# Altium footprint library Connector.PcbLib: 18 footprints (part 1 of 2)
Each footprint in its own frame and in the unit in brackets; x right, y up, seen from the top. Pads: shape width x height; smd on the part's side, far side on the other; paste and mask are expansions set on the pad; w line width, h text height; cw(c..) or ccw(c..) is an arc to the next point about the centre after c.
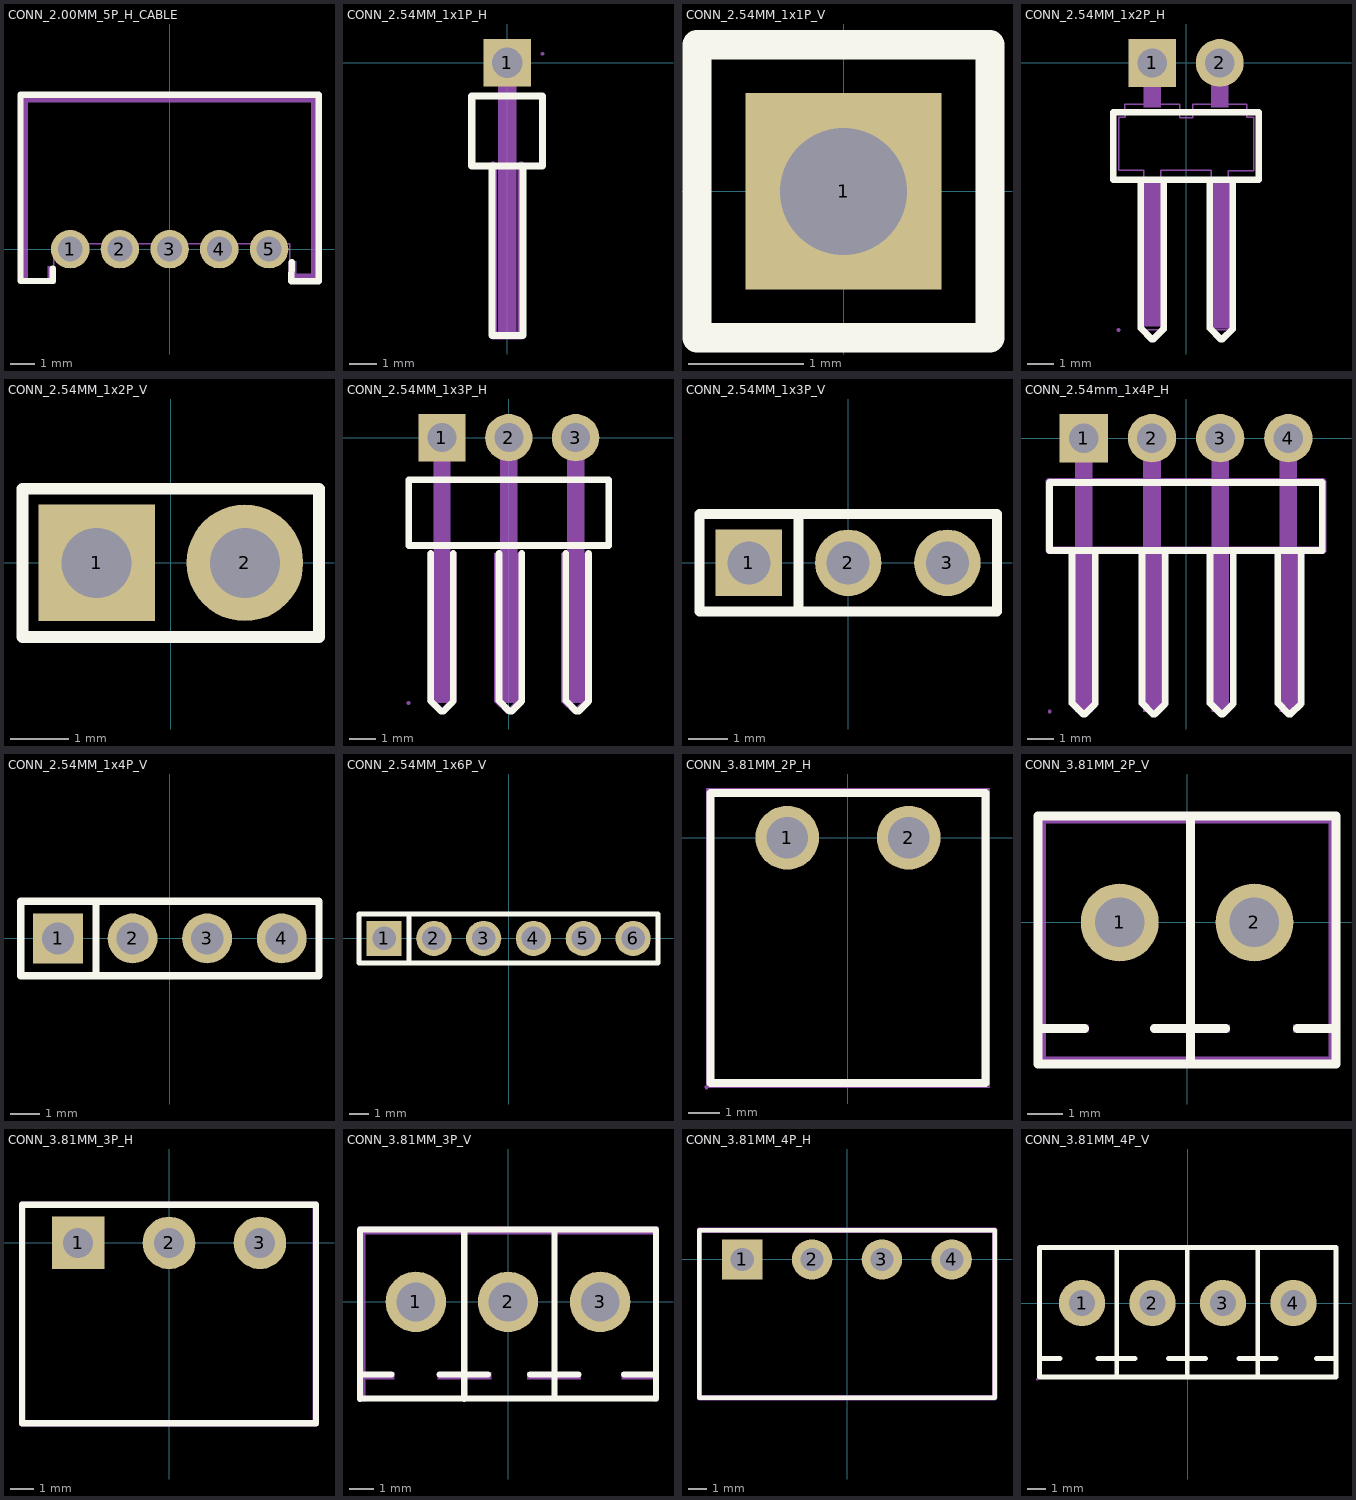
[diagram p0: the footprints below, top view; thin cyan lines are the x and y axes]

## CONN_2.00MM_5P_H_CABLE [mm]
pads (5):
  round 1.55 hole 1 paste-2539.97 mask+0.05: 1(-4,0) 2(-2,0) 3(0,0) 4(2,0) 5(4,0)
Top Overlay:
  lines w0.254: -5.999,6.215 6,6.215 6,-1.286 4.9,-1.286 4.909,-0.519 ; -6,6.215 -6,-1.285 -4.7,-1.285 -4.699,-0.782
Mechanical 2:
  region: -6,6.215 6,6.215 6,-1.285 4.8,-1.285 4.8,-0.485 5.1,-0.485 5.1,-0.985 5.7,-0.985 5.7,5.915 -5.7,5.915 -5.7,-1.185 -4.9,-1.185 -4.9,-0.685 -4.6,-0.685 -4.6,-1.385 -6,-1.385 -6,-1.185
Mechanical 6:
  lines w0.051: -6,-1.275 -4.66,-1.275 -4.66,0.215 4.83,0.215 4.83,-1.285 6.01,-1.285 6.01,6.225 -5.98,6.225 -6,1.205 -6,-1.275
Mechanical 8:
  region: -5.94,-1.285 -5.94,-1.31 -5.975,-1.345 -6.025,-1.345 -6.06,-1.31 -6.06,-1.285 -6.06,-1.26 -6.025,-1.225 -5.975,-1.225 -5.94,-1.26
Mechanical 9:
  region: -4.25,0.25 -3.75,0.25 -3.75,-0.25 -4.25,-0.25
  region: -2.25,0.25 -1.75,0.25 -1.75,-0.25 -2.25,-0.25
  region: -0.25,0.25 0.25,0.25 0.25,-0.25 -0.25,-0.25
  region: 1.75,0.25 2.25,0.25 2.25,-0.25 1.75,-0.25
  region: 3.75,0.25 4.25,0.25 4.25,-0.25 3.75,-0.25
3D body "Conn_2.00mm_1x5P_H.step": height 4.7, standoff -2.9, extent -5.905,-1.21 6.096,6.29

## CONN_2.54MM_1x1P_H [mm]
pads (1):
  rect 1.7x1.7 hole 1.1 paste-2539.97 mask+0.05: 1(0,0)
Top Overlay:
  lines w0.254: -0.541,-3.7 -0.541,-9.779 0.565,-9.779 0.565,-3.7 ; -1.27,-3.7 1.27,-3.7 1.27,-1.2 -1.27,-1.2 -1.27,-3.7
Mechanical 6:
  region: -0.381,-3.683 -0.381,-9.652 0.381,-9.652 0.381,-3.683 0.381,-3.63 0.455,-3.556 0.561,-3.556 0.635,-3.63 0.635,-3.683 0.635,-9.779 0.635,-9.804 0.616,-9.851 0.58,-9.887 0.533,-9.906 0.508,-9.906 -0.508,-9.906 -0.533,-9.906 -0.58,-9.887 -0.616,-9.851 -0.635,-9.804 -0.635,-9.779 -0.635,-3.683 -0.635,-3.63 -0.561,-3.556 -0.455,-3.556 -0.381,-3.63
Mechanical 15:
  region: 1.33,0.32 1.33,0.295 1.295,0.26 1.245,0.26 1.21,0.295 1.21,0.32 1.21,0.345 1.245,0.38 1.295,0.38 1.33,0.345
  region: -0.32,0.32 0.32,0.32 0.32,-0.32 -0.32,-0.32
  region: -0.32,-0.188 0.32,-0.188 0.32,-9.7 -0.32,-9.7
  lines w0.051: -1.27,-3.7 -1.27,-1.2 1.27,-1.2 1.27,-3.7 -1.27,-3.7
3D body "Conn_2.54mm_1x1P_H.step": height 3.03, standoff -2.47, extent -1.27,-9.972 1.28,0.368

## CONN_2.54MM_1x1P_V [mm]
pads (1):
  rect 1.7x1.7 hole 1.1: 1(0,0)
Top Overlay:
  lines w0.254: -1.27,-1.27 -1.27,1.27 1.27,1.27 1.27,-1.27 -1.27,-1.27
Mechanical 15:
  region: -0.325,-0.325 -0.325,0.325 0.325,0.325 0.325,-0.325
  region: 1.33,1.25 1.33,1.225 1.295,1.19 1.245,1.19 1.21,1.225 1.21,1.25 1.21,1.275 1.245,1.31 1.295,1.31 1.33,1.275
  lines w0.051: -1.27,-1.25 1.27,-1.25 1.27,1.25 -1.27,1.25 -1.27,-1.25
3D body "Conn_2.54mm_1x1P_V.step": height 8.5, standoff -3, extent -1.27,-1.27 1.28,1.27

## CONN_2.54MM_1x2P_H [mm]
pads (2):
  rect 1.8x1.8 hole 1.1: 1(-1.27,0)
  round 1.8 hole 1.1: 2(1.27,0)
Top Overlay:
  lines w0.254: -1.297,-10.4 -1.701,-9.996 ; -1.221,-10.4 -0.84,-10.019 ; 0.899,-4.4 0.899,-9.996 1.303,-10.4 ; 1.379,-10.4 1.76,-10.019 1.76,-4.4 ; -1.701,-9.996 -1.701,-4.4 -1.701,-9.996 ; -0.84,-10.019 -0.84,-4.4 -0.84,-10.019 ; -2.74,-4.4 2.74,-4.4 2.74,-1.86 -2.74,-1.86 -2.74,-4.4
Mechanical 6:
  region: -1.675,-4.415 -0.825,-4.415 -0.825,-9.925 -1.675,-9.925
  region: 0.91,-4.49 1.76,-4.49 1.76,-10 0.91,-10
Mechanical 15:
  region: -2.48,-10.06 -2.48,-10.085 -2.515,-10.12 -2.565,-10.12 -2.6,-10.085 -2.6,-10.06 -2.6,-10.035 -2.565,-10 -2.515,-10 -2.48,-10.035
  region: 0.95,0.32 1.59,0.32 1.59,-0.32 0.95,-0.32
  region: -1.59,0.32 -0.95,0.32 -0.95,-0.32 -1.59,-0.32
  region: 0.95,-1.679 0.95,0.321 1.59,0.321 1.59,-1.679
  region: -1.59,-1.679 -1.59,0.321 -0.95,0.321 -0.95,-1.679
  lines w0.051: -2.54,-4.05 -1.59,-4.05 -1.59,-10.03 -1.6,-10.03 -1.6,-10.06 -0.96,-10.06 -0.96,-4.05 0.96,-4.05 0.96,-10.05 1.59,-10.05 1.59,-4.06 2.55,-4.06 2.55,-2.05 2.29,-2.05 2.29,-1.55 0.25,-1.55 0.25,-2.06 -0.24,-2.06 -0.24,-1.55 -2.3,-1.55 -2.29,-2.05 -2.54,-2.05 -2.54,-4.05
3D body "Conn_2.54mm_1x2P_H.step": height 2.5, standoff -3, extent -2.677,-10.425 2.413,-0.025

## CONN_2.54MM_1x2P_V [mm]
pads (2):
  rect 2x2 hole 1.2: 1(-1.27,0)
  round 2 hole 1.2: 2(1.27,0)
Top Overlay:
  lines w0.203: -2.54,-1.27 -2.54,1.27 -0.635,1.27 2.54,1.27 2.54,-1.27 -2.54,-1.27
Mechanical 15:
  region: -1.59,0.32 -0.95,0.32 -0.95,-0.32 -1.59,-0.32
  region: 0.95,0.32 1.59,0.32 1.59,-0.32 0.95,-0.32
  region: -2.48,-1.25 -2.48,-1.275 -2.515,-1.31 -2.565,-1.31 -2.6,-1.275 -2.6,-1.25 -2.6,-1.225 -2.565,-1.19 -2.515,-1.19 -2.48,-1.225
  lines w0.051: -2.54,-1.25 2.54,-1.25 2.54,1.25 -2.54,1.25 -2.54,-1.25
3D body "Conn_2.54mm_1x2P_V.step": height 8.5, standoff -3, extent -2.54,-1.27 2.55,1.27

## CONN_2.54MM_1x3P_H [mm]
pads (3):
  rect 1.8x1.8 hole 1.1: 1(-2.54,0)
  round 1.8 hole 1.1: 2(0,0) 3(2.54,0)
Top Overlay:
  lines w0.254: -2.567,-10.4 -2.971,-9.996 ; -2.491,-10.4 -2.11,-10.019 ; -0.371,-4.4 -0.371,-9.996 0.033,-10.4 ; 0.109,-10.4 0.49,-10.019 0.49,-4.4 ; 2.572,-10.4 2.168,-9.996 ; 2.648,-10.4 3.029,-10.019 ; -2.971,-9.996 -2.971,-4.4 -2.971,-9.996 ; -2.11,-10.019 -2.11,-4.4 -2.11,-10.019 ; 2.168,-9.996 2.168,-4.4 2.168,-9.996 ; 3.029,-10.019 3.029,-4.4 3.029,-10.019 ; -3.8,-4.1 3.8,-4.1 3.8,-1.6 -3.8,-1.6 -3.8,-4.1
Mechanical 6:
  region: -2.85,-4.39 -3.09,-4.39 -3.09,-10.03 -2.62,-10.5 -2.42,-10.5 -1.99,-10.02 -1.99,-4.39 -2.24,-4.39 -2.24,-9.98 -2.53,-10.26 -2.85,-9.94
  region: -0.31,-4.39 -0.55,-4.39 -0.55,-10.03 -0.08,-10.5 0.12,-10.5 0.55,-10.02 0.55,-4.39 0.3,-4.39 0.3,-9.98 0.01,-10.26 -0.31,-9.94
  region: 2.23,-4.39 1.99,-4.39 1.99,-10.03 2.46,-10.5 2.66,-10.5 3.09,-10.02 3.09,-4.39 2.84,-4.39 2.84,-9.98 2.55,-10.26 2.23,-9.94
Mechanical 15:
  region: -3.75,-10.08 -3.75,-10.105 -3.785,-10.14 -3.835,-10.14 -3.87,-10.105 -3.87,-10.08 -3.87,-10.055 -3.835,-10.02 -3.785,-10.02 -3.75,-10.055
  region: 2.22,0.32 2.86,0.32 2.86,-0.32 2.22,-0.32
  region: -0.32,0.32 0.32,0.32 0.32,-0.32 -0.32,-0.32
  region: -2.86,0.32 -2.22,0.32 -2.22,-0.32 -2.86,-0.32
  region: -2.22,0.32 -2.86,0.32 -2.86,-10.08 -2.22,-10.08
  region: 0.32,0.32 -0.32,0.32 -0.32,-10.08 0.32,-10.08
  region: 2.86,0.32 2.22,0.32 2.22,-10.08 2.86,-10.08
  lines w0.051: -3.81,-4.08 -3.81,-1.58 3.81,-1.58 3.81,-4.08 -3.81,-4.08
3D body "Conn_2.54mm_1x3P_H.step": height 2.62, standoff -2.88, extent -3.81,-10.153 3.81,0.247

## CONN_2.54MM_1x3P_V [mm]
pads (3):
  rect 1.7x1.7 hole 1.1: 1(-2.54,0)
  round 1.7 hole 1.1: 2(0,0) 3(2.54,0)
Top Overlay:
  lines w0.254: -1.27,-1.25 -1.27,1.25 ; 3.809,-1.25 3.809,1.25 -3.81,1.25 -3.81,-1.25 3.81,-1.25
Mechanical 15:
  region: -3.75,-1.25 -3.75,-1.275 -3.785,-1.31 -3.835,-1.31 -3.87,-1.275 -3.87,-1.25 -3.87,-1.225 -3.835,-1.19 -3.785,-1.19 -3.75,-1.225
  region: 2.22,0.32 2.86,0.32 2.86,-0.32 2.22,-0.32
  region: -0.32,0.32 0.32,0.32 0.32,-0.32 -0.32,-0.32
  region: -2.86,0.32 -2.22,0.32 -2.22,-0.32 -2.86,-0.32
  lines w0.051: -3.81,-1.25 -3.81,1.25 3.81,1.25 3.81,-1.25 -3.81,-1.25
3D body "Conn_2.54mm_1x3P_V.step": height 8.5, standoff -3, extent -3.81,-1.27 3.82,1.27

## CONN_2.54mm_1x4P_H [mm]
pads (4):
  rect 1.8x1.8 hole 1.1: 1(-3.81,0)
  round 1.8 hole 1.1: 2(-1.27,0) 3(1.27,0) 4(3.81,0)
Top Overlay:
  lines w0.254: -5.09,-1.699 -5.09,-4.181 5.07,-4.181 5.07,-1.651 -5.09,-1.651 ; -3.84,-10.273 -4.244,-9.869 ; -3.764,-10.273 -3.383,-9.892 ; -1.644,-4.273 -1.644,-9.869 -1.24,-10.273 ; -1.164,-10.273 -0.783,-9.892 -0.783,-4.273 ; 1.299,-10.273 0.895,-9.869 ; 1.375,-10.273 1.756,-9.892 ; 3.417,-4.273 3.417,-9.869 3.821,-10.273 ; 3.897,-10.273 4.278,-9.892 4.278,-4.273 ; -4.244,-9.869 -4.244,-4.273 -4.244,-9.869 ; -3.383,-9.892 -3.383,-4.273 -3.383,-9.892 ; 0.895,-9.869 0.895,-4.273 0.895,-9.869 ; 1.756,-9.892 1.756,-4.273 1.756,-9.892
Mechanical 6:
  region: -4.973,-1.63 -4.973,-4.053 5.1,-4.053 5.153,-4.053 5.227,-4.127 5.227,-4.233 5.153,-4.307 5.1,-4.307 -5.1,-4.307 -5.125,-4.307 -5.172,-4.288 -5.208,-4.252 -5.227,-4.205 -5.227,-4.18 -5.227,-1.63 -5.227,-1.577 -5.153,-1.503 -5.047,-1.503 -4.973,-1.577
  region: 4.969,-4.177 4.969,-1.754 -5.104,-1.754 -5.156,-1.754 -5.231,-1.68 -5.231,-1.574 -5.156,-1.5 -5.104,-1.5 5.096,-1.5 5.122,-1.5 5.168,-1.519 5.204,-1.555 5.223,-1.602 5.223,-1.627 5.223,-4.177 5.223,-4.23 5.149,-4.304 5.044,-4.304 4.969,-4.23
Mechanical 15:
  region: -5.02,-10.18 -5.02,-10.205 -5.055,-10.24 -5.105,-10.24 -5.14,-10.205 -5.14,-10.18 -5.14,-10.155 -5.105,-10.12 -5.055,-10.12 -5.02,-10.155
  region: -4.13,0.32 -3.49,0.32 -3.49,-0.32 -4.13,-0.32
  region: -1.59,0.32 -0.95,0.32 -0.95,-0.32 -1.59,-0.32
  region: 0.95,0.32 1.59,0.32 1.59,-0.32 0.95,-0.32
  region: 3.49,0.32 4.13,0.32 4.13,-0.32 3.49,-0.32
  region: 3.49,0.32 3.49,-10.18 4.13,-10.18 4.13,0.32
  region: 0.95,0.32 0.95,-10.18 1.59,-10.18 1.59,0.32
  region: -1.59,0.32 -1.59,-10.18 -0.95,-10.18 -0.95,0.32
  region: -4.13,0.32 -4.13,-10.18 -3.49,-10.18 -3.49,0.32
  lines w0.051: -5.08,-4.18 5.08,-4.18 5.08,-1.64 -5.08,-1.64 -5.08,-4.18
3D body "Conn_2.54mm_1x4P_H.step": height 2.5, standoff -3.05, extent -5.08,-10.244 5.09,0.356

## CONN_2.54MM_1x4P_V [mm]
pads (4):
  rect 1.7x1.7 hole 1.1: 1(-3.81,0)
  round 1.7 hole 1.1: 2(-1.27,0) 3(1.27,0) 4(3.81,0)
Top Overlay:
  lines w0.254: -2.516,-1.27 -2.516,1.27 ; -2.516,1.27 -5.08,1.27 -5.08,-1.27 5.08,-1.27 5.08,1.27 -2.516,1.27
Mechanical 15:
  region: 3.49,0.32 4.13,0.32 4.13,-0.32 3.49,-0.32
  region: 0.95,0.32 1.59,0.32 1.59,-0.32 0.95,-0.32
  region: -1.59,0.32 -0.95,0.32 -0.95,-0.32 -1.59,-0.32
  region: -4.13,0.32 -3.49,0.32 -3.49,-0.32 -4.13,-0.32
  region: -5.02,-1.25 -5.02,-1.275 -5.055,-1.31 -5.105,-1.31 -5.14,-1.275 -5.14,-1.25 -5.14,-1.225 -5.105,-1.19 -5.055,-1.19 -5.02,-1.225
  lines w0.051: -5.08,-1.25 5.08,-1.25 5.08,1.25 -5.08,1.25 -5.08,-1.25
3D body "Conn_2.54mm_1x4P_V.step": height 8.54, standoff -3, extent -5.09,-1.33 5.08,1.33

## CONN_2.54MM_1x6P_V [mm]
pads (6):
  rect 1.8x1.8 hole 1.2: 1(-6.35,0)
  round 1.8 hole 1.2: 2(-3.81,0) 3(-1.27,0) 4(1.27,0) 5(3.81,0) 6(6.35,0)
Top Overlay:
  lines w0.254: -5.08,-1.25 -5.08,1.251 ; -7.62,-1.25 7.62,-1.25 7.62,1.25 -7.62,1.25 -7.62,-1.25
Mechanical 15:
  region: -7.56,-1.25 -7.56,-1.275 -7.595,-1.31 -7.645,-1.31 -7.68,-1.275 -7.68,-1.25 -7.68,-1.225 -7.645,-1.19 -7.595,-1.19 -7.56,-1.225
  region: -6.67,0.32 -6.03,0.32 -6.03,-0.32 -6.67,-0.32
  region: -4.13,0.32 -3.49,0.32 -3.49,-0.32 -4.13,-0.32
  region: -1.59,0.32 -0.95,0.32 -0.95,-0.32 -1.59,-0.32
  region: 0.95,0.32 1.59,0.32 1.59,-0.32 0.95,-0.32
  region: 3.49,0.32 4.13,0.32 4.13,-0.32 3.49,-0.32
  region: 6.03,0.32 6.67,0.32 6.67,-0.32 6.03,-0.32
  lines w0.051: -7.62,-1.25 7.62,-1.25 7.62,1.25 -7.62,1.25 -7.62,-1.25
3D body "Conn_2.54mm_1x6P_V.step": height 8.5, standoff -3, extent -7.62,-1.27 7.63,1.27

## CONN_3.81MM_2P_H [mm]
pads (2):
  round 2 hole 1.3: 1(-1.905,0) 2(1.905,0)
Top Overlay:
  lines w0.254: -4.31,-7.7 -4.31,1.4 4.31,1.4 4.31,-7.7 -4.31,-7.7
Mechanical 15:
  region: -4.377,-7.827 -4.377,-7.852 -4.412,-7.887 -4.462,-7.887 -4.497,-7.852 -4.497,-7.827 -4.497,-7.802 -4.462,-7.767 -4.412,-7.767 -4.377,-7.802
  region: 2.455,0 2.455,-0.109 2.371,-0.312 2.217,-0.466 2.014,-0.55 1.796,-0.55 1.593,-0.466 1.439,-0.312 1.355,-0.109 1.355,0 1.355,0.109 1.439,0.312 1.593,0.466 1.796,0.55 2.014,0.55 2.217,0.466 2.371,0.312 2.455,0.109
  region: -1.355,0 -1.355,-0.109 -1.439,-0.312 -1.593,-0.466 -1.796,-0.55 -2.014,-0.55 -2.217,-0.466 -2.371,-0.312 -2.455,-0.109 -2.455,0 -2.455,0.109 -2.371,0.312 -2.217,0.466 -2.014,0.55 -1.796,0.55 -1.593,0.466 -1.439,0.312 -1.355,0.109
  lines w0.051: -4.437,-7.827 -4.437,1.527 4.437,1.527 4.437,-7.827 -4.437,-7.827
3D body "Conn_3.81mm_1x2P_H.step": height 7.36, standoff -3.33, extent -4.205,-7.93 4.205,1.27

## CONN_3.81MM_2P_V [mm]
pads (2):
  round 2.2 hole 1.4: 1(-1.905,0) 2(1.905,0)
Top Overlay:
  lines w0.254: -4.21,-3 -2.905,-3 ; -0.925,-3 1.085,-3 ; 0.095,-4 0.095,3 ; 3.115,-3 4.21,-3 ; -4.21,-4 -4.21,3 4.21,3 4.21,-4 -4.21,-4
Mechanical 6:
  region: -4.2,-2 -4,-2 -4,-3.8 4,-3.8 4,-2 4.2,-2 4.2,-4 -4.2,-4 -4.2,-3.2
  region: -4.2,3 4.2,3 4.2,-2 4,-2 4,2.8 -4,2.8 -4,-2 -4.2,-2
  region: 3,-2.9 4.2,-2.9 4.2,-3.1 3,-3.1
  region: 0,-1.9 0.2,-1.9 0.2,-3.9 0,-3.9
  region: -1,-2.9 1.2,-2.9 1.2,-3.1 -1,-3.1
  region: -4.2,-2.9 -2.8,-2.9 -2.8,-3.1 -4.2,-3.1
Mechanical 15:
  region: 2.305,-0.4 1.505,-0.4 1.505,0.4 2.305,0.4
  region: -1.505,-0.4 -2.305,-0.4 -2.305,0.4 -1.505,0.4
  region: -4.15,3 -4.15,2.975 -4.185,2.94 -4.235,2.94 -4.27,2.975 -4.27,3 -4.27,3.025 -4.235,3.06 -4.185,3.06 -4.15,3.025
  lines w0.051: -4.21,-4 4.21,-4 4.21,3 -4.21,3 -4.21,-4
3D body "Conn_3.81mm_1x2P_V.step": height 9.16, standoff -3.69, extent -4.25,-3.9 4.25,3.101

## CONN_3.81MM_3P_H [mm]
pads (3):
  rect 2.2x2.2 hole 1.26: 1(-3.81,0)
  round 2.2 hole 1.26: 2(0,0) 3(3.81,0)
Top Overlay:
  lines w0.254: -6.155,-7.55 6.155,-7.55 6.155,1.6 -6.155,1.6 -6.155,-7.55
Mechanical 6:
  region: 6.155,1.473 -6.155,1.473 -6.208,1.473 -6.282,1.547 -6.282,1.653 -6.208,1.727 -6.155,1.727 6.155,1.727 6.208,1.727 6.282,1.653 6.282,1.547 6.208,1.473
  region: -6.028,1.6 -6.028,-7.423 6.028,-7.423 6.028,1.6 6.028,1.653 6.102,1.727 6.208,1.727 6.282,1.653 6.282,1.6 6.282,-7.55 6.282,-7.575 6.263,-7.622 6.227,-7.658 6.18,-7.677 6.155,-7.677 -6.155,-7.677 -6.18,-7.677 -6.227,-7.658 -6.263,-7.622 -6.282,-7.575 -6.282,-7.55 -6.282,1.6 -6.282,1.653 -6.208,1.727 -6.102,1.727 -6.028,1.653
Mechanical 15:
  region: -4.21,0.4 -3.41,0.4 -3.41,-0.4 -4.21,-0.4
  region: -0.4,0.4 0.4,0.4 0.4,-0.4 -0.4,-0.4
  region: 3.41,0.4 4.21,0.4 4.21,-0.4 3.41,-0.4
  region: -6.095,-7.55 -6.095,-7.575 -6.13,-7.61 -6.18,-7.61 -6.215,-7.575 -6.215,-7.55 -6.215,-7.525 -6.18,-7.49 -6.13,-7.49 -6.095,-7.525
  lines w0.051: -6.155,-7.55 6.155,-7.55 6.155,1.6 -6.155,1.6 -6.155,-7.55
3D body "Conn_3.81mm_1x3P_H.step": height 7, standoff -3.5, extent -6.155,-7.55 6.155,1.6

## CONN_3.81MM_3P_V [mm]
pads (3):
  round 2.5 hole 1.6: 1(-3.81,0) 2(0,0) 3(3.81,0)
Top Overlay:
  lines w0.254: -6.115,-3 -4.81,-3 ; -2.83,-3 -0.82,-3 ; -1.81,-4 -1.81,3 ; 0.905,-3 2.915,-3 ; 1.925,-4 1.925,3 ; 4.805,-3 6.115,-3 ; -6.115,-4 -6.115,3 6.115,3 6.115,-4 -6.115,-4
Mechanical 6:
  region: -6.2,-4.1 -6.2,3.1 -5.9,3.1 -5.9,-4.1
  region: -4.7,-2.9 -4.7,-3.2 -5.9,-3.2 -5.9,-2.9
  region: 6.2,-4.1 6.2,3.1 6,3.1 6,-4.1
  region: 6,-2.9 4.7,-2.9 4.7,-3.2 6,-3.2
  region: -5.9,3.1 6,3.1 6,2.8 -5.9,2.8
  region: -2.9,-3.2 -2.9,-2.9 -0.7,-2.9 -0.7,-3.2
  region: 3,-2.9 3,-3.2 0.8,-3.2 0.8,-2.9
Mechanical 15:
  region: -6.055,-4 -6.055,-4.025 -6.09,-4.06 -6.14,-4.06 -6.175,-4.025 -6.175,-4 -6.175,-3.975 -6.14,-3.94 -6.09,-3.94 -6.055,-3.975
  region: -3.31,-0.5 -4.31,-0.5 -4.31,0.5 -3.31,0.5
  region: 0.5,-0.5 -0.5,-0.5 -0.5,0.5 0.5,0.5
  region: 4.31,-0.5 3.31,-0.5 3.31,0.5 4.31,0.5
  lines w0.051: -6.115,-4 -6.115,3 6.115,3 6.115,-4 -6.115,-4
3D body "Conn_3.81mm_1x3P_V.step": height 9.29, standoff -3.56, extent -6.096,-3.881 6.214,3.12

## CONN_3.81MM_4P_H [mm]
pads (4):
  rect 2.2x2.2 hole 1.26: 1(-5.715,0)
  round 2.2 hole 1.26: 2(-1.905,0) 3(1.905,0) 4(5.715,0)
Top Overlay:
  lines w0.254: -8.06,-7.55 8.06,-7.55 8.06,1.6 -8.06,1.6 -8.06,-7.55
Mechanical 6:
  region: 8.06,1.473 -8.06,1.473 -8.113,1.473 -8.187,1.547 -8.187,1.653 -8.113,1.727 -8.06,1.727 8.06,1.727 8.113,1.727 8.187,1.653 8.187,1.547 8.113,1.473
  region: -7.933,1.6 -7.933,-7.423 7.933,-7.423 7.933,1.6 7.933,1.653 8.007,1.727 8.113,1.727 8.187,1.653 8.187,1.6 8.187,-7.55 8.187,-7.575 8.168,-7.622 8.132,-7.658 8.085,-7.677 8.06,-7.677 -8.06,-7.677 -8.085,-7.677 -8.132,-7.658 -8.168,-7.622 -8.187,-7.575 -8.187,-7.55 -8.187,1.6 -8.187,1.653 -8.113,1.727 -8.007,1.727 -7.933,1.653
Mechanical 15:
  region: 5.315,0.4 6.115,0.4 6.115,-0.4 5.315,-0.4
  region: 1.505,0.4 2.305,0.4 2.305,-0.4 1.505,-0.4
  region: -2.305,0.4 -1.505,0.4 -1.505,-0.4 -2.305,-0.4
  region: -6.115,0.4 -5.315,0.4 -5.315,-0.4 -6.115,-0.4
  region: -8,-7.55 -8,-7.575 -8.035,-7.61 -8.085,-7.61 -8.12,-7.575 -8.12,-7.55 -8.12,-7.525 -8.085,-7.49 -8.035,-7.49 -8,-7.525
  lines w0.051: -8.06,-7.55 8.06,-7.55 8.06,1.6 -8.06,1.6 -8.06,-7.55
3D body "Conn_3.81mm_1x4P_H.step": height 7, standoff -3.5, extent -8.06,-7.626 8.06,1.524

## CONN_3.81MM_4P_V [mm]
pads (4):
  round 2.5 hole 1.4 paste-2539.97 mask+0.05: 1(-5.715,0) 2(-1.905,0) 3(1.905,0) 4(5.715,0)
Top Overlay:
  lines w0.254: -8.001,-4 -8.001,-1.905 ; -7.91,-3 -7.655,-3 -7.145,-3 -6.89,-3 ; -4.862,-3 -2.852,-3 ; -3.842,-4 -3.842,3 ; -1.052,-3 0.958,-3 ; -0.032,-4 -0.032,3 ; 2.758,-3 4.768,-3 ; 3.778,-4 3.778,3 ; 6.949,-3 7.204,-3 7.714,-3 7.969,-3 ; -8.015,-4 8.015,-4 8.015,3 -8.015,3 -8.015,-4
Mechanical 15:
  region: -8.082,-4.127 -8.082,-4.152 -8.117,-4.187 -8.167,-4.187 -8.202,-4.152 -8.202,-4.127 -8.202,-4.103 -8.167,-4.068 -8.117,-4.068 -8.082,-4.103
  lines w0.051: 8.015,-4 -8.015,-4 -8.015,3 8.015,3
3D body "Conn_3.81mm_1x4P_V.step": height 9.15, standoff -3.5, extent -8.06,-4.08 8.06,2.921